# EAGLE library part LED2000 (library Andrew-Electrical)
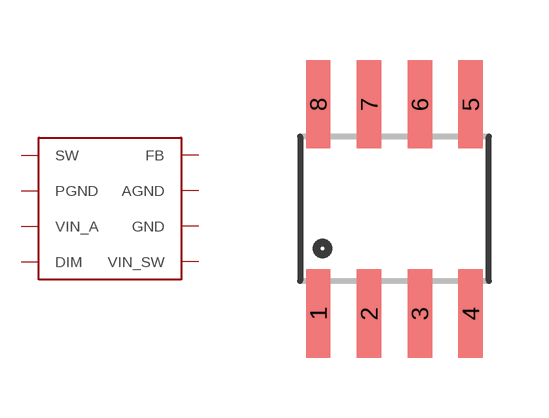
[diagram p0: symbol with the pads of SO08; footprint SO08]

Designator prefix -

## LED2000LED2000-SO8  [SO08]
1  SW
2  PGND
3  VIN_A
4  DIM
5  FB
6  AGND
7  GND
8  VIN_SW

## Footprint SO08 (pad centres in mm)
Small Outline Package Fits JEDEC packages (narrow SOIC-8)
smd 0.61 x 2.21: 1 -1.905,-2.616; 2 -0.635,-2.616; 3 0.635,-2.616; 4 1.905,-2.616; 5 1.905,2.616; 6 0.635,2.616; 7 -0.635,2.616; 8 -1.905,2.616